# Altium footprint library MPM54304GMN-0000.PcbLib: 3 footprints
Each footprint in its own frame and in the unit in brackets; x right, y up, seen from the top. Pads: shape width x height; smd on the part's side, far side on the other; paste and mask are expansions set on the pad; w line width, h text height; cw(c..) or ccw(c..) is an arc to the next point about the centre after c.
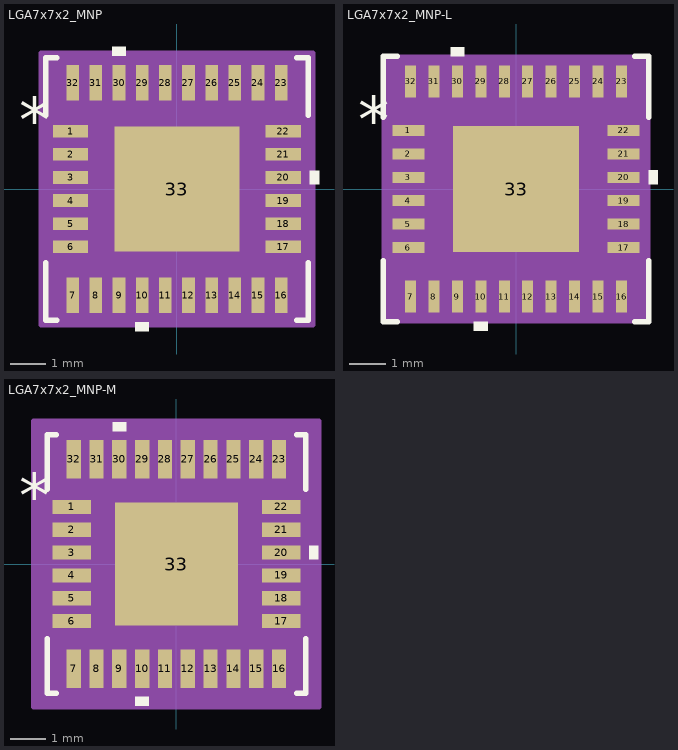
[diagram p0: the footprints below, top view; thin cyan lines are the x and y axes]

## LGA7x7x2_MNP [mil]
pads (33):
  rect 39x14 smd paste+0 mask+0: 1(-117.5,63.98) 2(-117.5,38.39) 3(-117.5,12.8) 4(-117.5,-12.8) 5(-117.5,-38.39) 6(-117.5,-63.98) 17(117.5,-63.98) 18(117.5,-38.39) 19(117.5,-12.8) 20(117.5,12.8) 21(117.5,38.39) 22(117.5,63.98)
  rect 14x39 smd paste+0 mask+0: 7(-115.16,-117.5) 8(-89.57,-117.5) 9(-63.98,-117.5) 10(-38.39,-117.5) 11(-12.8,-117.5) 12(12.8,-117.5) 13(38.39,-117.5) 14(63.98,-117.5) 15(89.57,-117.5) 16(115.16,-117.5) 23(115.16,117.5) 24(89.57,117.5) 25(63.98,117.5) 26(38.39,117.5) 27(12.8,117.5) 28(-12.8,117.5) 29(-38.39,117.5) 30(-63.98,117.5) 31(-89.57,117.5) 32(-115.16,117.5)
  rect 138x138 smd paste-69 mask+0: 33(0,0)
Top Overlay:
  region: -30.89,-147 -45.89,-147 -45.89,-157 -30.89,-157
  region: 147,20.3 157,20.3 157,5.3 147,5.3
  region: -56.48,147 -71.48,147 -71.48,157 -56.48,157
  lines w6: -145,-81.35 -145,-145 -132.53,-145 ; -145,81.35 -145,145 -132.53,145 ; 132.53,-145 145,-145 145,-81.35 ; 132.53,145 145,145 145,81.35
  text "*" at -174.5,51.77 h50
Top Paste:
  region: -3.94,65.06 -65.06,65.06 -65.06,3.94 -3.94,3.94
  region: -3.94,-3.94 -65.06,-3.94 -65.06,-65.06 -3.94,-65.06
  region: 65.06,65.06 3.94,65.06 3.94,3.94 65.06,3.94
  region: 65.06,-3.94 3.94,-3.94 3.94,-65.06 65.06,-65.06
Mechanical 13:
  lines w1: -140,90 -90,140 ; -140,-140 140,-140 ; -140,-140 -140,140 ; -140,-140 -140,-140 ; -140,140 140,140 ; -140,140 -140,140 ; 140,-140 140,-140 ; 140,-140 140,140 ; 140,140 140,140 ; -140,-70.98 -140,-56.98 -137,-56.98 -137,-70.98 -140,-70.98 ; -140,-45.39 -140,-31.39 -137,-31.39 -137,-45.39 -140,-45.39 ; -140,-19.8 -140,-5.8 -137,-5.8 -137,-19.8 -140,-19.8 ; -140,5.8 -140,19.8 -137,19.8 -137,5.8 -140,5.8 ; -140,31.39 -140,45.39 -137,45.39 -137,31.39 -140,31.39 ; -140,56.98 -140,70.98 -137,70.98 -137,56.98 -140,56.98 ; -122.16,-140 -108.16,-140 -108.16,-137 -122.16,-137 -122.16,-140 ; -122.16,137 -108.16,137 -108.16,140 -122.16,140 -122.16,137 ; -96.57,-140 -82.57,-140 -82.57,-137 -96.57,-137 -96.57,-140 ; -96.57,137 -82.57,137 -82.57,140 -96.57,140 -96.57,137 ; -70.98,-140 -56.98,-140 -56.98,-137 -70.98,-137 -70.98,-140 ; -70.98,137 -56.98,137 -56.98,140 -70.98,140 -70.98,137 ; -45.39,-140 -31.39,-140 -31.39,-137 -45.39,-137 -45.39,-140 ; -45.39,137 -31.39,137 -31.39,140 -45.39,140 -45.39,137 ; -19.8,-140 -5.8,-140 -5.8,-137 -19.8,-137 -19.8,-140 ; -19.8,137 -5.8,137 -5.8,140 -19.8,140 -19.8,137 ; 5.8,-140 19.8,-140 19.8,-137 5.8,-137 5.8,-140 ; 5.8,137 19.8,137 19.8,140 5.8,140 5.8,137 ; 31.39,-140 45.39,-140 45.39,-137 31.39,-137 31.39,-140 ; 31.39,137 45.39,137 45.39,140 31.39,140 31.39,137 ; 56.98,-140 70.98,-140 70.98,-137 56.98,-137 56.98,-140 ; 56.98,137 70.98,137 70.98,140 56.98,140 56.98,137 ; 82.57,-140 96.57,-140 96.57,-137 82.57,-137 82.57,-140 ; 82.57,137 96.57,137 96.57,140 82.57,140 82.57,137 ; 108.16,-140 122.16,-140 122.16,-137 108.16,-137 108.16,-140 ; 108.16,137 122.16,137 122.16,140 108.16,140 108.16,137 ; 137,-70.98 140,-70.98 140,-56.98 137,-56.98 137,-70.98 ; 137,-45.39 140,-45.39 140,-31.39 137,-31.39 137,-45.39 ; 137,-19.8 140,-19.8 140,-5.8 137,-5.8 137,-19.8 ; 137,5.8 140,5.8 140,19.8 137,19.8 137,5.8 ; 137,31.39 140,31.39 140,45.39 137,45.39 137,31.39 ; 137,56.98 140,56.98 140,70.98 137,70.98 137,56.98
  text "*" at -110.5,51.77 h50
Mechanical 15:
  region: -132.16,-150 -150,-150 -150,-80.98 -150,80.98 -150,150 -132.16,150 132.16,150 150,150 150,80.98 150,-80.98 150,-150 132.16,-150
  lines w6: -150,-80.98 -150,-150 -132.16,-150 ; -150,-80.98 -150,-80.98 ; -150,-80.98 -150,80.98 ; -150,80.98 -150,80.98 ; -150,80.98 -150,150 -132.16,150 ; -132.16,-150 132.16,-150 ; -132.16,-150 -132.16,-150 ; -132.16,150 -132.16,150 ; -132.16,150 132.16,150 ; 132.16,-150 150,-150 150,-80.98 ; 132.16,-150 132.16,-150 ; 132.16,150 132.16,150 ; 132.16,150 150,150 150,80.98 ; 150,-80.98 150,80.98 ; 150,-80.98 150,-80.98 ; 150,80.98 150,80.98
3D body "LGA7x7x2_MNP.step": height 83.11, standoff 0, extent -140,-140 140,140

## LGA7x7x2_MNP-L [mil]
pads (33):
  rect 35x12 smd paste+0 mask+0: 1(-117.5,63.98) 2(-117.5,38.39) 3(-117.5,12.8) 4(-117.5,-12.8) 5(-117.5,-38.39) 6(-117.5,-63.98) 17(117.5,-63.98) 18(117.5,-38.39) 19(117.5,-12.8) 20(117.5,12.8) 21(117.5,38.39) 22(117.5,63.98)
  rect 12x35 smd paste+0 mask+0: 7(-115.16,-117.5) 8(-89.57,-117.5) 9(-63.98,-117.5) 10(-38.39,-117.5) 11(-12.8,-117.5) 12(12.8,-117.5) 13(38.39,-117.5) 14(63.98,-117.5) 15(89.57,-117.5) 16(115.16,-117.5) 23(115.16,117.5) 24(89.57,117.5) 25(63.98,117.5) 26(38.39,117.5) 27(12.8,117.5) 28(-12.8,117.5) 29(-38.39,117.5) 30(-63.98,117.5) 31(-89.57,117.5) 32(-115.16,117.5)
  rect 138x138 smd paste-69 mask+0: 33(0,0)
Top Overlay:
  region: -30.89,-145 -45.89,-145 -45.89,-155 -30.89,-155
  region: 145,20.3 155,20.3 155,5.3 145,5.3
  region: -56.48,145 -71.48,145 -71.48,155 -56.48,155
  lines w6: -145,-78.44 -145,-145 -129.62,-145 ; -145,78.44 -145,145 -129.62,145 ; 129.62,-145 145,-145 145,-78.44 ; 129.62,145 145,145 145,78.44
  text "*" at -172.5,51.77 h50
Top Paste:
  region: -3.94,65.06 -65.06,65.06 -65.06,3.94 -3.94,3.94
  region: -3.94,-3.94 -65.06,-3.94 -65.06,-65.06 -3.94,-65.06
  region: 65.06,65.06 3.94,65.06 3.94,3.94 65.06,3.94
  region: 65.06,-3.94 3.94,-3.94 3.94,-65.06 65.06,-65.06
Mechanical 13:
  lines w1: -140,90 -90,140 ; -140,-140 140,-140 ; -140,-140 -140,140 ; -140,-140 -140,-140 ; -140,140 140,140 ; -140,140 -140,140 ; 140,-140 140,-140 ; 140,-140 140,140 ; 140,140 140,140 ; -140,-70.98 -140,-56.98 -137,-56.98 -137,-70.98 -140,-70.98 ; -140,-45.39 -140,-31.39 -137,-31.39 -137,-45.39 -140,-45.39 ; -140,-19.8 -140,-5.8 -137,-5.8 -137,-19.8 -140,-19.8 ; -140,5.8 -140,19.8 -137,19.8 -137,5.8 -140,5.8 ; -140,31.39 -140,45.39 -137,45.39 -137,31.39 -140,31.39 ; -140,56.98 -140,70.98 -137,70.98 -137,56.98 -140,56.98 ; -122.16,-140 -108.16,-140 -108.16,-137 -122.16,-137 -122.16,-140 ; -122.16,137 -108.16,137 -108.16,140 -122.16,140 -122.16,137 ; -96.57,-140 -82.57,-140 -82.57,-137 -96.57,-137 -96.57,-140 ; -96.57,137 -82.57,137 -82.57,140 -96.57,140 -96.57,137 ; -70.98,-140 -56.98,-140 -56.98,-137 -70.98,-137 -70.98,-140 ; -70.98,137 -56.98,137 -56.98,140 -70.98,140 -70.98,137 ; -45.39,-140 -31.39,-140 -31.39,-137 -45.39,-137 -45.39,-140 ; -45.39,137 -31.39,137 -31.39,140 -45.39,140 -45.39,137 ; -19.8,-140 -5.8,-140 -5.8,-137 -19.8,-137 -19.8,-140 ; -19.8,137 -5.8,137 -5.8,140 -19.8,140 -19.8,137 ; 5.8,-140 19.8,-140 19.8,-137 5.8,-137 5.8,-140 ; 5.8,137 19.8,137 19.8,140 5.8,140 5.8,137 ; 31.39,-140 45.39,-140 45.39,-137 31.39,-137 31.39,-140 ; 31.39,137 45.39,137 45.39,140 31.39,140 31.39,137 ; 56.98,-140 70.98,-140 70.98,-137 56.98,-137 56.98,-140 ; 56.98,137 70.98,137 70.98,140 56.98,140 56.98,137 ; 82.57,-140 96.57,-140 96.57,-137 82.57,-137 82.57,-140 ; 82.57,137 96.57,137 96.57,140 82.57,140 82.57,137 ; 108.16,-140 122.16,-140 122.16,-137 108.16,-137 108.16,-140 ; 108.16,137 122.16,137 122.16,140 108.16,140 108.16,137 ; 137,-70.98 140,-70.98 140,-56.98 137,-56.98 137,-70.98 ; 137,-45.39 140,-45.39 140,-31.39 137,-31.39 137,-45.39 ; 137,-19.8 140,-19.8 140,-5.8 137,-5.8 137,-19.8 ; 137,5.8 140,5.8 140,19.8 137,19.8 137,5.8 ; 137,31.39 140,31.39 140,45.39 137,45.39 137,31.39 ; 137,56.98 140,56.98 140,70.98 137,70.98 137,56.98
  text "*" at -112.5,51.77 h50
Mechanical 15:
  region: -125.16,-144 -144,-144 -144,-73.98 -144,73.98 -144,144 -125.16,144 125.16,144 144,144 144,73.98 144,-73.98 144,-144 125.16,-144
  lines w6: -144,-73.98 -144,-144 -125.16,-144 ; -144,-73.98 -144,-73.98 ; -144,-73.98 -144,73.98 ; -144,73.98 -144,73.98 ; -144,73.98 -144,144 -125.16,144 ; -125.16,-144 125.16,-144 ; -125.16,-144 -125.16,-144 ; -125.16,144 -125.16,144 ; -125.16,144 125.16,144 ; 125.16,-144 144,-144 144,-73.98 ; 125.16,-144 125.16,-144 ; 125.16,144 125.16,144 ; 125.16,144 144,144 144,73.98 ; 144,-73.98 144,73.98 ; 144,-73.98 144,-73.98 ; 144,73.98 144,73.98
3D body "LGA7x7x2_MNP.step": height 83.11, standoff 0, extent -140,-140 140,140

## LGA7x7x2_MNP-M [mil]
pads (33):
  rect 43x16 smd paste+0 mask+0: 1(-117.5,63.98) 2(-117.5,38.39) 3(-117.5,12.8) 4(-117.5,-12.8) 5(-117.5,-38.39) 6(-117.5,-63.98) 17(117.5,-63.98) 18(117.5,-38.39) 19(117.5,-12.8) 20(117.5,12.8) 21(117.5,38.39) 22(117.5,63.98)
  rect 16x43 smd paste+0 mask+0: 7(-115.16,-117.5) 8(-89.57,-117.5) 9(-63.98,-117.5) 10(-38.39,-117.5) 11(-12.8,-117.5) 12(12.8,-117.5) 13(38.39,-117.5) 14(63.98,-117.5) 15(89.57,-117.5) 16(115.16,-117.5) 23(115.16,117.5) 24(89.57,117.5) 25(63.98,117.5) 26(38.39,117.5) 27(12.8,117.5) 28(-12.8,117.5) 29(-38.39,117.5) 30(-63.98,117.5) 31(-89.57,117.5) 32(-115.16,117.5)
  rect 138x138 smd paste-69 mask+0: 33(0,0)
Top Overlay:
  region: -30.89,-149 -45.89,-149 -45.89,-159 -30.89,-159
  region: 149,20.3 159,20.3 159,5.3 149,5.3
  region: -56.48,149 -71.48,149 -71.48,159 -56.48,159
  lines w6: -145,-83.62 -145,-145 -134.8,-145 ; -145,83.62 -145,145 -134.8,145 ; 134.8,-145 145,-145 145,-83.62 ; 134.8,145 145,145 145,83.62
  text "*" at -176.5,51.77 h50
Top Paste:
  region: -3.94,65.06 -65.06,65.06 -65.06,3.94 -3.94,3.94
  region: -3.94,-3.94 -65.06,-3.94 -65.06,-65.06 -3.94,-65.06
  region: 65.06,65.06 3.94,65.06 3.94,3.94 65.06,3.94
  region: 65.06,-3.94 3.94,-3.94 3.94,-65.06 65.06,-65.06
Mechanical 13:
  lines w1: -140,90 -90,140 ; -140,-140 140,-140 ; -140,-140 -140,140 ; -140,-140 -140,-140 ; -140,140 140,140 ; -140,140 -140,140 ; 140,-140 140,-140 ; 140,-140 140,140 ; 140,140 140,140 ; -140,-70.98 -140,-56.98 -137,-56.98 -137,-70.98 -140,-70.98 ; -140,-45.39 -140,-31.39 -137,-31.39 -137,-45.39 -140,-45.39 ; -140,-19.8 -140,-5.8 -137,-5.8 -137,-19.8 -140,-19.8 ; -140,5.8 -140,19.8 -137,19.8 -137,5.8 -140,5.8 ; -140,31.39 -140,45.39 -137,45.39 -137,31.39 -140,31.39 ; -140,56.98 -140,70.98 -137,70.98 -137,56.98 -140,56.98 ; -122.16,-140 -108.16,-140 -108.16,-137 -122.16,-137 -122.16,-140 ; -122.16,137 -108.16,137 -108.16,140 -122.16,140 -122.16,137 ; -96.57,-140 -82.57,-140 -82.57,-137 -96.57,-137 -96.57,-140 ; -96.57,137 -82.57,137 -82.57,140 -96.57,140 -96.57,137 ; -70.98,-140 -56.98,-140 -56.98,-137 -70.98,-137 -70.98,-140 ; -70.98,137 -56.98,137 -56.98,140 -70.98,140 -70.98,137 ; -45.39,-140 -31.39,-140 -31.39,-137 -45.39,-137 -45.39,-140 ; -45.39,137 -31.39,137 -31.39,140 -45.39,140 -45.39,137 ; -19.8,-140 -5.8,-140 -5.8,-137 -19.8,-137 -19.8,-140 ; -19.8,137 -5.8,137 -5.8,140 -19.8,140 -19.8,137 ; 5.8,-140 19.8,-140 19.8,-137 5.8,-137 5.8,-140 ; 5.8,137 19.8,137 19.8,140 5.8,140 5.8,137 ; 31.39,-140 45.39,-140 45.39,-137 31.39,-137 31.39,-140 ; 31.39,137 45.39,137 45.39,140 31.39,140 31.39,137 ; 56.98,-140 70.98,-140 70.98,-137 56.98,-137 56.98,-140 ; 56.98,137 70.98,137 70.98,140 56.98,140 56.98,137 ; 82.57,-140 96.57,-140 96.57,-137 82.57,-137 82.57,-140 ; 82.57,137 96.57,137 96.57,140 82.57,140 82.57,137 ; 108.16,-140 122.16,-140 122.16,-137 108.16,-137 108.16,-140 ; 108.16,137 122.16,137 122.16,140 108.16,140 108.16,137 ; 137,-70.98 140,-70.98 140,-56.98 137,-56.98 137,-70.98 ; 137,-45.39 140,-45.39 140,-31.39 137,-31.39 137,-45.39 ; 137,-19.8 140,-19.8 140,-5.8 137,-5.8 137,-19.8 ; 137,5.8 140,5.8 140,19.8 137,19.8 137,5.8 ; 137,31.39 140,31.39 140,45.39 137,45.39 137,31.39 ; 137,56.98 140,56.98 140,70.98 137,70.98 137,56.98
  text "*" at -108.5,51.77 h50
Mechanical 15:
  region: -143.16,-160 -160,-160 -160,-91.98 -160,91.98 -160,160 -143.16,160 143.16,160 160,160 160,91.98 160,-91.98 160,-160 143.16,-160
  lines w6: -160,-91.98 -160,-160 -143.16,-160 ; -160,-91.98 -160,-91.98 ; -160,-91.98 -160,91.98 ; -160,91.98 -160,91.98 ; -160,91.98 -160,160 -143.16,160 ; -143.16,-160 143.16,-160 ; -143.16,-160 -143.16,-160 ; -143.16,160 -143.16,160 ; -143.16,160 143.16,160 ; 143.16,-160 160,-160 160,-91.98 ; 143.16,-160 143.16,-160 ; 143.16,160 143.16,160 ; 143.16,160 160,160 160,91.98 ; 160,-91.98 160,91.98 ; 160,-91.98 160,-91.98 ; 160,91.98 160,91.98
3D body "LGA7x7x2_MNP.step": height 83.11, standoff 0, extent -140,-140 140,140